# Altium integrated library AD Analog Comparator.IntLib: 78 symbols (part 1 of 2)
Pins are listed as number, name and electrical type; pins without a type are passive.

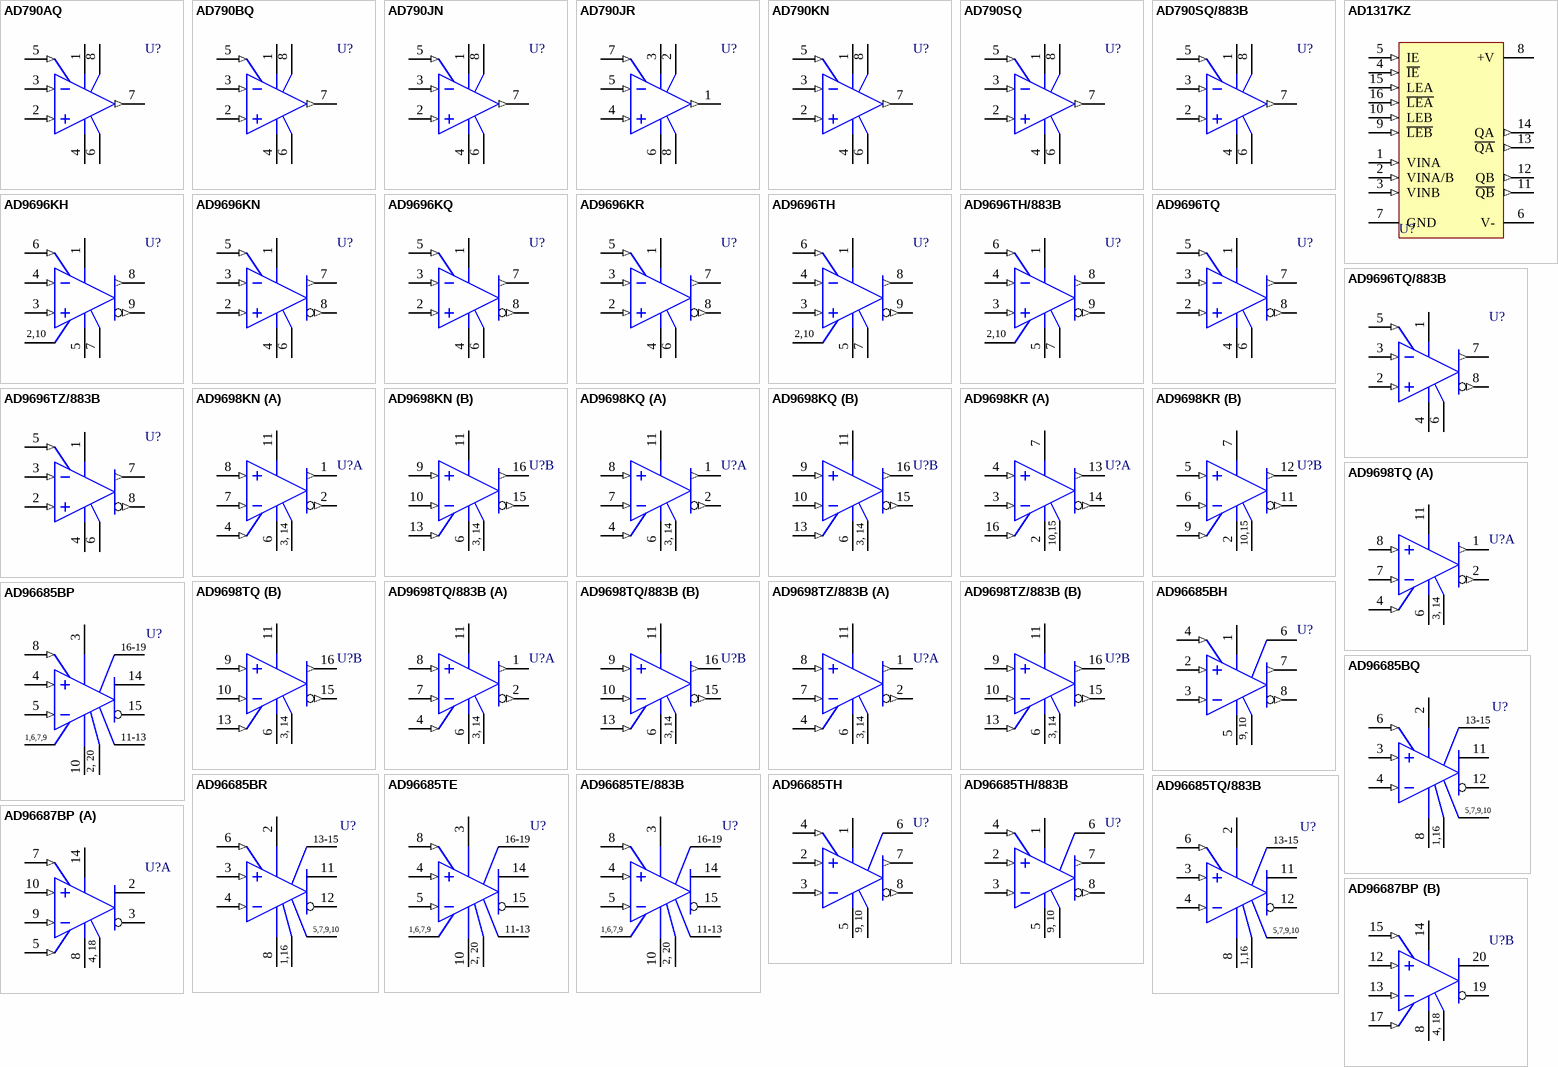
[diagram p0: symbols AD790AQ to AD96687BP]

## AD790AQ
designator U?
Fast Precision Comparator; Published: 8-Jun-2000; LatestRevisionDate: 04-Mar-2005; LatestRevisionNote: Stylized 3D Model Added.; DatasheetVersion: REV. B; PackageVersion: 1998; PackageReference: Q-8; Publisher: Altium Limited; PackageDescription: DIP; 8 Leads; Row Spacing 7.62 mm; Pitch 2.54 mm; ComponentLink1Description: Manufacturer Link; ComponentLink1URL: http://www.analog.com/
footprint Q-8 (DIP; 8 Leads; Row Spacing 7.62 mm; Pitch 2.54 mm)
3D model Q-8 (DIP; 8 Leads; Row Spacing 7.62 mm; Pitch 2.54 mm)
pins: 1 V+ (power), 2 IN+ (in), 3 IN- (in), 4 V- (power), 5 ~{LE} (in), 6 GND (power), 7 OUT (out), 8 VLOGIC (power)

## AD790BQ
designator U?
Fast Precision Comparator; Published: 8-Jun-2000; LatestRevisionDate: 04-Mar-2005; LatestRevisionNote: Stylized 3D Model Added.; DatasheetVersion: REV. B; PackageVersion: 1998; PackageReference: Q-8; Publisher: Altium Limited; PackageDescription: DIP; 8 Leads; Row Spacing 7.62 mm; Pitch 2.54 mm; ComponentLink1Description: Manufacturer Link; ComponentLink1URL: http://www.analog.com/
footprint Q-8 (DIP; 8 Leads; Row Spacing 7.62 mm; Pitch 2.54 mm)
3D model Q-8 (DIP; 8 Leads; Row Spacing 7.62 mm; Pitch 2.54 mm)
pins: 1 V+ (power), 2 IN+ (in), 3 IN- (in), 4 V- (power), 5 ~{LE} (in), 6 GND (power), 7 OUT (out), 8 VLOGIC (power)

## AD790JN
designator U?
Fast Precision Comparator; Published: 8-Jun-2000; LatestRevisionDate: 04-Mar-2005; LatestRevisionNote: Stylized 3D Model Added.; DatasheetVersion: REV. B; PackageVersion: revA; PackageReference: N-8; Publisher: Altium Limited; PackageDescription: DIP; 8 Leads; Row Spacing 7.62 mm; Pitch 2.54 mm; ComponentLink1Description: Manufacturer Link; ComponentLink1URL: http://www.analog.com/
footprint N-8 (DIP; 8 Leads; Row Spacing 7.62 mm; Pitch 2.54 mm)
3D model Q-8 (DIP; 8 Leads; Row Spacing 7.62 mm; Pitch 2.54 mm)
pins: 1 V+ (power), 2 IN+ (in), 3 IN- (in), 4 V- (power), 5 ~{LE} (in), 6 GND (power), 7 OUT (out), 8 VLOGIC (power)

## AD790JR
designator U?
Fast Precision Comparator; Published: 8-Jun-2000; LatestRevisionDate: 13-Apr-2006; LatestRevisionNote: IPC-7351 Footprint Added.; DatasheetVersion: REV. B; PackageVersion: revC; PackageReference: SO-8C; Publisher: Altium Limited; PackageDescription: 8-Pin Small Outline Integrated Circuit 1.27 mm Pitch; Code_IPC: SOIC127P600-8; ComponentLink1Description: Manufacturer Link; ComponentLink1URL: http://www.analog.com/
footprint SO-8C_N (SOIC, 8-Leads, Body 4.9x3.9mm, Pitch 1.27mm, IPC Medium Density)
footprint SO-8C_L (SOIC, 8-Leads, Body 4.9x3.9mm, Pitch 1.27mm, IPC High Density)
footprint SO-8C_M (SOIC, 8-Leads, Body 4.9x3.9mm, Pitch 1.27mm, IPC Low Density)
3D model SO-8C (8-Pin Small Outline Integrated Circuit 1.27 mm Pitch)
pins: 1 OUT (out), 2 VLOGIC (power), 3 V+ (power), 4 IN+ (in), 5 IN- (in), 6 V- (power), 7 ~{LE} (in), 8 GND (power)

## AD790KN
designator U?
Fast Precision Comparator; Published: 8-Jun-2000; LatestRevisionDate: 04-Mar-2005; LatestRevisionNote: Stylized 3D Model Added.; DatasheetVersion: REV. B; PackageVersion: 1992; PackageReference: N-8_B; Publisher: Altium Limited; PackageDescription: DIP; 8 Leads; Row Spacing 7.62 mm; Pitch 2.54 mm; ComponentLink1Description: Manufacturer Link; ComponentLink1URL: http://www.analog.com/
footprint N-8_B (DIP; 8 Leads; Row Spacing 7.62 mm; Pitch 2.54 mm)
3D model Q-8 (DIP; 8 Leads; Row Spacing 7.62 mm; Pitch 2.54 mm)
pins: 1 V+ (power), 2 IN+ (in), 3 IN- (in), 4 V- (power), 5 ~{LE} (in), 6 GND (power), 7 OUT (out), 8 VLOGIC (power)

## AD790SQ
designator U?
Fast Precision Comparator; Published: 8-Jun-2000; LatestRevisionDate: 04-Mar-2005; LatestRevisionNote: Stylized 3D Model Added.; DatasheetVersion: REV. B; PackageVersion: 1998; PackageReference: Q-8; Publisher: Altium Limited; PackageDescription: DIP; 8 Leads; Row Spacing 7.62 mm; Pitch 2.54 mm; ComponentLink1Description: Manufacturer Link; ComponentLink1URL: http://www.analog.com/
footprint Q-8 (DIP; 8 Leads; Row Spacing 7.62 mm; Pitch 2.54 mm)
3D model Q-8 (DIP; 8 Leads; Row Spacing 7.62 mm; Pitch 2.54 mm)
pins: 1 V+ (power), 2 IN+ (in), 3 IN- (in), 4 V- (power), 5 ~{LE} (in), 6 GND (power), 7 OUT (out), 8 VLOGIC (power)

## AD790SQ/883B
designator U?
Fast Precision Comparator; Published: 8-Jun-2000; LatestRevisionDate: 04-Mar-2005; LatestRevisionNote: Stylized 3D Model Added.; DatasheetVersion: REV. B; PackageVersion: 1998; PackageReference: Q-8; Publisher: Altium Limited; PackageDescription: DIP; 8 Leads; Row Spacing 7.62 mm; Pitch 2.54 mm; ComponentLink1Description: Manufacturer Link; ComponentLink1URL: http://www.analog.com/
footprint Q-8 (DIP; 8 Leads; Row Spacing 7.62 mm; Pitch 2.54 mm)
3D model Q-8 (DIP; 8 Leads; Row Spacing 7.62 mm; Pitch 2.54 mm)
pins: 1 V+ (power), 2 IN+ (in), 3 IN- (in), 4 V- (power), 5 ~{LE} (in), 6 GND (power), 7 OUT (out), 8 VLOGIC (power)

## AD1317KZ
designator U?
Ultra-high Speed Window Comparator with Latch; Published: 8-Jun-2000; LatestRevisionDate: 13-Apr-2006; LatestRevisionNote: IPC-7351 Footprint Added.; DatasheetVersion: REV. A 1997; PackageReference: Z-16A; Publisher: Altium Limited; PackageDescription: 16-Pin Ceramic Leaded Chip Carrier 1.27 mm Pitch; ComponentLink1Description: Manufacturer Link; ComponentLink1URL: http://www.analog.com/
footprint Z-16A_N (SOP, 16-Leads, Body 11.4x11.4mm, Pitch 1.27mm, IPC Medium Density)
footprint Z-16A_L (SOP, 16-Leads, Body 11.4x11.4mm, Pitch 1.27mm, IPC High Density)
footprint Z-16A_M (SOP, 16-Leads, Body 11.4x11.4mm, Pitch 1.27mm, IPC Low Density)
3D model Z-16A (16-Pin Ceramic Leaded Chip Carrier 1.27 mm Pitch)
pins: 1 VINA (in), 2 VINA/B (in), 3 VINB (in), 4 ~{IE} (in), 5 IE (in), 6 V- (power), 7 GND (power), 8 +V (power), 9 ~{LEB} (in), 10 LEB (in), 11 ~{QB} (out), 12 QB (out), 13 ~{QA} (out), 14 QA (out), 15 LEA (in), 16 ~{LEA} (in)

## AD9696KH
designator U?
Ultrafast TTL Comparator; Note: Pins 2 and 10 are not connected; Published: 8-Jun-2000; LatestRevisionDate: 17-Jul-2002; LatestRevisionNote: Re-released for DXP Platform.; DatasheetVersion: 1992; PackageReference: H-10A; Publisher: Altium Limited; PackageDescription: Can; 10 Leads; Pin Circle Dia. 5.84 mm; Lead Dia. 0.53 mm (max); Code_JEDEC: TO-100; ComponentLink1Description: Manufacturer Link; ComponentLink1URL: http://www.analog.com/
footprint H-10A (Can; 10 Leads; Pin Circle Dia. 5.84 mm; Lead Dia. 0.53 mm (max))
pins: 1 V+ (power), 2 NC, 3 IN+ (in), 4 IN- (in), 5 V- (power), 6 LE (in), 7 GND (power), 8 Q (out), 9 ~{Q} (out), 10 NC
text: 2,10

## AD9696KN
designator U?
Ultrafast TTL Comparator; Published: 8-Jun-2000; LatestRevisionDate: 04-Mar-2005; LatestRevisionNote: Stylized 3D Model Added.; DatasheetVersion: 1992; PackageReference: N-8_A; Publisher: Altium Limited; PackageDescription: DIP; 8 Leads; Row Spacing 7.62 mm; Pitch 2.54 mm; Code_JEDEC: MO-001-AN; ComponentLink1Description: Manufacturer Link; ComponentLink1URL: http://www.analog.com/
footprint N-8_A (DIP; 8 Leads; Row Spacing 7.62 mm; Pitch 2.54 mm)
3D model N-8A (DIP; 8 Leads; Row Spacing 7.62 mm; Pitch 2.54 mm)
pins: 1 V+ (power), 2 IN+ (in), 3 IN- (in), 4 V- (power), 5 LE (in), 6 GND (power), 7 Q (out), 8 ~{Q} (out)

## AD9696KQ
designator U?
Ultrafast TTL Comparator; Published: 8-Jun-2000; LatestRevisionDate: 04-Mar-2005; LatestRevisionNote: Stylized 3D Model Added.; DatasheetVersion: 1992; PackageVersion: 1998; PackageReference: Q-8; Publisher: Altium Limited; PackageDescription: DIP; 8 Leads; Row Spacing 7.62 mm; Pitch 2.54 mm; ComponentLink1Description: Manufacturer Link; ComponentLink1URL: http://www.analog.com/
footprint Q-8 (DIP; 8 Leads; Row Spacing 7.62 mm; Pitch 2.54 mm)
3D model Q-8 (DIP; 8 Leads; Row Spacing 7.62 mm; Pitch 2.54 mm)
pins: 1 V+ (power), 2 IN+ (in), 3 IN- (in), 4 V- (power), 5 LE (in), 6 GND (power), 7 Q (out), 8 ~{Q} (out)

## AD9696KR
designator U?
Ultrafast TTL Comparator; Published: 8-Jun-2000; LatestRevisionDate: 13-Apr-2006; LatestRevisionNote: IPC-7351 Footprint Added.; DatasheetVersion: 1992; PackageVersion: 2005; PackageReference: R-8; Publisher: Altium Limited; PackageDescription: 8-Pin Narrow Body Small Outline Integrated Circuit 1.27 mm Pitch; Code_JEDEC: MS-012-AA; Code_IPC: SOIC127P600-8; ComponentLink1Description: Manufacturer Link; ComponentLink1URL: http://www.analog.com/
footprint R-8_N (SOIC, 8-Leads, Body 4.9x3.9mm, Pitch 1.27mm, IPC Medium Density)
footprint R-8_L (SOIC, 8-Leads, Body 4.9x3.9mm, Pitch 1.27mm, IPC High Density)
footprint R-8_M (SOIC, 8-Leads, Body 4.9x3.9mm, Pitch 1.27mm, IPC Low Density)
3D model R-8 (8-Pin Narrow Body Small Outline Integrated Circuit 1.27 mm Pitch)
pins: 1 V+ (power), 2 IN+ (in), 3 IN- (in), 4 V- (power), 5 LE (in), 6 GND (power), 7 Q (out), 8 ~{Q} (out)

## AD9696TH
designator U?
Ultrafast TTL Comparator; Note: Pins 2 and 10 are not connected; Published: 8-Jun-2000; LatestRevisionDate: 17-Jul-2002; LatestRevisionNote: Re-released for DXP Platform.; DatasheetVersion: 1992; PackageReference: H-10A; Publisher: Altium Limited; PackageDescription: Can; 10 Leads; Pin Circle Dia. 5.84 mm; Lead Dia. 0.53 mm (max); Code_JEDEC: TO-100; ComponentLink1Description: Manufacturer Link; ComponentLink1URL: http://www.analog.com/
footprint H-10A (Can; 10 Leads; Pin Circle Dia. 5.84 mm; Lead Dia. 0.53 mm (max))
pins: 1 V+ (power), 2 NC, 3 IN+ (in), 4 IN- (in), 5 V- (power), 6 LE (in), 7 GND (power), 8 Q (out), 9 ~{Q} (out), 10 NC
text: 2,10

## AD9696TH/883B
designator U?
Ultrafast TTL Comparator; Note: Pins 2 and 10 are not connected; Published: 8-Jun-2000; LatestRevisionDate: 17-Jul-2002; LatestRevisionNote: Re-released for DXP Platform.; DatasheetVersion: 1992; PackageReference: H-10A; Publisher: Altium Limited; PackageDescription: Can; 10 Leads; Pin Circle Dia. 5.84 mm; Lead Dia. 0.53 mm (max); Code_JEDEC: TO-100; ComponentLink1Description: Manufacturer Link; ComponentLink1URL: http://www.analog.com/
footprint H-10A (Can; 10 Leads; Pin Circle Dia. 5.84 mm; Lead Dia. 0.53 mm (max))
pins: 1 V+ (power), 2 NC, 3 IN+ (in), 4 IN- (in), 5 V- (power), 6 LE (in), 7 GND (power), 8 Q (out), 9 ~{Q} (out), 10 NC
text: 2,10

## AD9696TQ
designator U?
Ultrafast TTL Comparator; Published: 8-Jun-2000; LatestRevisionDate: 04-Mar-2005; LatestRevisionNote: Stylized 3D Model Added.; DatasheetVersion: 1992; PackageVersion: 1998; PackageReference: Q-8; Publisher: Altium Limited; PackageDescription: DIP; 8 Leads; Row Spacing 7.62 mm; Pitch 2.54 mm; ComponentLink1Description: Manufacturer Link; ComponentLink1URL: http://www.analog.com/
footprint Q-8 (DIP; 8 Leads; Row Spacing 7.62 mm; Pitch 2.54 mm)
3D model Q-8 (DIP; 8 Leads; Row Spacing 7.62 mm; Pitch 2.54 mm)
pins: 1 V+ (power), 2 IN+ (in), 3 IN- (in), 4 V- (power), 5 LE (in), 6 GND (power), 7 Q (out), 8 ~{Q} (out)

## AD9696TQ/883B
designator U?
Ultrafast TTL Comparator; Published: 8-Jun-2000; LatestRevisionDate: 04-Mar-2005; LatestRevisionNote: Stylized 3D Model Added.; DatasheetVersion: 1992; PackageVersion: 1998; PackageReference: Q-8; Publisher: Altium Limited; PackageDescription: DIP; 8 Leads; Row Spacing 7.62 mm; Pitch 2.54 mm; ComponentLink1Description: Manufacturer Link; ComponentLink1URL: http://www.analog.com/
footprint Q-8 (DIP; 8 Leads; Row Spacing 7.62 mm; Pitch 2.54 mm)
3D model Q-8 (DIP; 8 Leads; Row Spacing 7.62 mm; Pitch 2.54 mm)
pins: 1 V+ (power), 2 IN+ (in), 3 IN- (in), 4 V- (power), 5 LE (in), 6 GND (power), 7 Q (out), 8 ~{Q} (out)

## AD9696TZ/883B
designator U?
Ultrafast TTL Comparator; Published: 8-Jun-2000; LatestRevisionDate: 13-Apr-2006; LatestRevisionNote: IPC-7351 Footprint Added.; DatasheetVersion: 1992; PackageReference: Z-8; Publisher: Altium Limited; PackageDescription: 8-Pin Small Outline Package 1.27 mm Pitch; ComponentLink1Description: Manufacturer Link; ComponentLink1URL: http://www.analog.com/
footprint Z-8_N (SOP, 8-Leads, Body 6.5x6.5mm, Pitch 1.27mm, IPC Medium Density)
footprint Z-8_L (SOP, 8-Leads, Body 6.5x6.5mm, Pitch 1.27mm, IPC High Density)
footprint Z-8_M (SOP, 8-Leads, Body 6.5x6.5mm, Pitch 1.27mm, IPC Low Density)
3D model Z-8 (8-Pin Small Outline Package 1.27 mm Pitch)
pins: 1 V+ (power), 2 IN+ (in), 3 IN- (in), 4 V- (power), 5 LE (in), 6 GND (power), 7 Q (out), 8 ~{Q} (out)

## AD9698KN
designator U?
Ultrafast TTL Comparator; Note: Pins 5 and 12 are not connected and not drawn; Published: 8-Jun-2000; LatestRevisionDate: 04-Mar-2005; LatestRevisionNote: Stylized 3D Model Added.; DatasheetVersion: 1992; PackageReference: N-16_A; Publisher: Altium Limited; PackageDescription: DIP; 16 Leads; Row Spacing 7.62 mm; Pitch 2.54 mm; ComponentLink1Description: Manufacturer Link; ComponentLink1URL: http://www.analog.com/
footprint N-16_A (DIP; 16 Leads; Row Spacing 7.62 mm; Pitch 2.54 mm)
3D model Q-16 (DIP; 16 Leads; Row Spacing 7.62 mm; Pitch 2.54 mm)
pins on every part: 3 GND (power), 6 V- (power), 11 V+ (power), 14 GND (power)
part A pins: 1 Q (out), 2 ~{Q} (out), 4 LE (in), 7 IN- (in), 8 IN+ (in)
part B pins: 9 IN+ (in), 10 IN- (in), 13 LE (in), 15 ~{Q} (out), 16 Q (out)
part A text: 3, 14
part B text: 3, 14

## AD9698KQ
designator U?
Ultrafast TTL Comparator; Note: Pins 5 and 12 are not connected and not drawn; Published: 8-Jun-2000; LatestRevisionDate: 04-Mar-2005; LatestRevisionNote: Stylized 3D Model Added.; DatasheetVersion: 1992; PackageVersion: 1996; PackageReference: Q-16; Publisher: Altium Limited; PackageDescription: DIP; 16 Leads; Row Spacing 7.62 mm; Pitch 2.54 mm; ComponentLink1Description: Manufacturer Link; ComponentLink1URL: http://www.analog.com/
footprint Q-16 (DIP; 16 Leads; Row Spacing 7.62 mm; Pitch 2.54 mm)
3D model Q-16 (DIP; 16 Leads; Row Spacing 7.62 mm; Pitch 2.54 mm)
pins on every part: 3 GND (power), 6 V- (power), 11 V+ (power), 14 GND (power)
part A pins: 1 Q (out), 2 ~{Q} (out), 4 LE (in), 7 IN- (in), 8 IN+ (in)
part B pins: 9 IN+ (in), 10 IN- (in), 13 LE (in), 15 ~{Q} (out), 16 Q (out)
part A text: 3, 14
part B text: 3, 14

## AD9698KR
designator U?
Ultrafast TTL Comparator; Note: Pins 1 and 8 are not connected and not drawn; Published: 8-Jun-2000; LatestRevisionDate: 13-Apr-2006; LatestRevisionNote: IPC-7351 Footprint Added.; DatasheetVersion: 1992; PackageReference: R-16A; Publisher: Altium Limited; PackageDescription: 16-Pin Small Outline Integrated Circuit 1.27 mm Pitch; Code_JEDEC: MS-012-AC; Code_IPC: SOIC127P600-16; ComponentLink1Description: Manufacturer Link; ComponentLink1URL: http://www.analog.com/
footprint R-16A_N (SOIC, 16-Leads, Body 9.9x3.9mm, Pitch 1.27mm, IPC Medium Density)
footprint R-16A_L (SOIC, 16-Leads, Body 9.9x3.9mm, Pitch 1.27mm, IPC High Density)
footprint R-16A_M (SOIC, 16-Leads, Body 9.9x3.9mm, Pitch 1.27mm, IPC Low Density)
3D model R-16A (16-Pin Small Outline Integrated Circuit 1.27 mm Pitch)
pins on every part: 2 V- (power), 7 V+ (power), 10 GND (power), 15 GND (power)
part A pins: 3 IN- (in), 4 IN+ (in), 13 Q (out), 14 ~{Q} (out), 16 LE (in)
part B pins: 5 IN+ (in), 6 IN- (in), 9 LE (in), 11 ~{Q} (out), 12 Q (out)
part A text: 10,15
part B text: 10,15

## AD9698TQ
designator U?
Ultrafast TTL Comparator; Note: Pins 5 and 12 are not connected and not drawn; Published: 8-Jun-2000; LatestRevisionDate: 04-Mar-2005; LatestRevisionNote: Stylized 3D Model Added.; DatasheetVersion: 1992; PackageVersion: 1996; PackageReference: Q-16; Publisher: Altium Limited; PackageDescription: DIP; 16 Leads; Row Spacing 7.62 mm; Pitch 2.54 mm; ComponentLink1Description: Manufacturer Link; ComponentLink1URL: http://www.analog.com/
footprint Q-16 (DIP; 16 Leads; Row Spacing 7.62 mm; Pitch 2.54 mm)
3D model Q-16 (DIP; 16 Leads; Row Spacing 7.62 mm; Pitch 2.54 mm)
pins on every part: 3 GND (power), 6 V- (power), 11 V+ (power), 14 GND (power)
part A pins: 1 Q (out), 2 ~{Q} (out), 4 LE (in), 7 IN- (in), 8 IN+ (in)
part B pins: 9 IN+ (in), 10 IN- (in), 13 LE (in), 15 ~{Q} (out), 16 Q (out)
part A text: 3, 14
part B text: 3, 14

## AD9698TQ/883B
designator U?
Ultrafast TTL Comparator; Note: Pins 5 and 12 are not connected and not drawn; Published: 8-Jun-2000; LatestRevisionDate: 04-Mar-2005; LatestRevisionNote: Stylized 3D Model Added.; DatasheetVersion: 1992; PackageVersion: 1996; PackageReference: Q-16; Publisher: Altium Limited; PackageDescription: DIP; 16 Leads; Row Spacing 7.62 mm; Pitch 2.54 mm; ComponentLink1Description: Manufacturer Link; ComponentLink1URL: http://www.analog.com/
footprint Q-16 (DIP; 16 Leads; Row Spacing 7.62 mm; Pitch 2.54 mm)
3D model Q-16 (DIP; 16 Leads; Row Spacing 7.62 mm; Pitch 2.54 mm)
pins on every part: 3 GND (power), 6 V- (power), 11 V+ (power), 14 GND (power)
part A pins: 1 Q (out), 2 ~{Q} (out), 4 LE (in), 7 IN- (in), 8 IN+ (in)
part B pins: 9 IN+ (in), 10 IN- (in), 13 LE (in), 15 ~{Q} (out), 16 Q (out)
part A text: 3, 14
part B text: 3, 14

## AD9698TZ/883B
designator U?
Ultrafast TTL Comparator; Note: Pins 5 and 12 are not connected and not drawn; Published: 8-Jun-2000; LatestRevisionDate: 13-Apr-2006; LatestRevisionNote: IPC-7351 Footprint Added.; DatasheetVersion: 1992; PackageReference: Z-16; Publisher: Altium Limited; PackageDescription: 16-Pin Ceramic Leaded Chip Carrier 1.27 mm Pitch; ComponentLink1Description: Manufacturer Link; ComponentLink1URL: http://www.analog.com/
footprint Z-16_N (SOP, 16-Leads, Body 10.1x6.5mm, Pitch 1.27mm, IPC Medium Density)
footprint Z-16_L (SOP, 16-Leads, Body 10.1x6.5mm, Pitch 1.27mm, IPC High Density)
footprint Z-16_M (SOP, 16-Leads, Body 10.1x6.5mm, Pitch 1.27mm, IPC Low Density)
3D model Z-16 (16-Pin Ceramic Leaded Chip Carrier 1.27 mm Pitch)
pins on every part: 3 GND (power), 6 V- (power), 11 V+ (power), 14 GND (power)
part A pins: 1 Q (out), 2 ~{Q} (out), 4 LE (in), 7 IN- (in), 8 IN+ (in)
part B pins: 9 IN+ (in), 10 IN- (in), 13 LE (in), 15 ~{Q} (out), 16 Q (out)
part A text: 3, 14
part B text: 3, 14

## AD96685BH
designator U?
Ultrafast Comparator; Note: Pin 6 is not connected; Published: 8-Jun-2000; LatestRevisionDate: 17-Jul-2002; LatestRevisionNote: Re-released for DXP Platform.; DatasheetVersion: REV. C; PackageReference: H-10A; Publisher: Altium Limited; PackageDescription: Can; 10 Leads; Pin Circle Dia. 5.84 mm; Lead Dia. 0.53 mm (max); Code_JEDEC: TO-100; ComponentLink1Description: Manufacturer Link; ComponentLink1URL: http://www.analog.com/en/prod/0%2C2877%2CAD96685%2C00.html; ComponentLink2Description: Datasheet; ComponentLink2URL: http://www.analog.com/UploadedFiles/Data_Sheets/528053103AD96685_7_d.pdf
footprint H-10A (Can; 10 Leads; Pin Circle Dia. 5.84 mm; Lead Dia. 0.53 mm (max))
pins: 1 V+ (power), 2 IN+ (in), 3 IN- (in), 4 LE (in), 5 V- (power), 6 NC, 7 Q (out), 8 ~{Q} (out), 9 GND (power), 10 GND (power)
text: 9, 10

## AD96685BP
designator U?
Ultrafast Comparator; Note: Pins 1, 6, 7, 9, 11, 12, 13, 16, 17, 18 and 19 are not connected; Published: 8-Jun-2000; LatestRevisionDate: 13-Apr-2006; LatestRevisionNote: IPC-7351 Footprint Added.; DatasheetVersion: REV. C; PackageVersion: revA; PackageReference: P-20A_A; Publisher: Altium Limited; PackageDescription: 20-Pin Leaded Chip Carrier 1.27 mm Pitch; Code_IPC: PLCC-20; ComponentLink1Description: Manufacturer Link; ComponentLink1URL: http://www.analog.com/en/prod/0%2C2877%2CAD96685%2C00.html; ComponentLink2Description: Datasheet; ComponentLink2URL: http://www.analog.com/UploadedFiles/Data_Sheets/528053103AD96685_7_d.pdf
footprint P-20A_A_N (Leaded Chip Carrier, 20-Leads, Body 9x9mm, Pitch 1.27mm, IPC Medium Density)
footprint P-20A_A_L (Leaded Chip Carrier, 20-Leads, Body 9x9mm, Pitch 1.27mm, IPC High Density)
footprint P-20A_A_M (Leaded Chip Carrier, 20-Leads, Body 9x9mm, Pitch 1.27mm, IPC Low Density)
3D model AD96685-P20AA (20-Pin Leaded Chip Carrier 1.27 mm Pitch)
pins: 1 NC, 2 GND (power), 3 V+ (power), 4 IN+ (in), 5 IN- (in), 6 NC, 7 NC, 8 LE (in), 9 NC, 10 V- (power), 11 NC, 12 NC, 13 NC, 14 Q (oe), 15 ~{Q} (oe), 16 NC, 17 NC, 18 NC, 19 NC, 20 GND (power)
text: 16-19; 1,6,7,9; 11-13; 2, 20

## AD96685BQ
designator U?
Ultrafast Comparator; Note: Pins 5, 7, 9, 10, 13, 14 and 15 are not connected; Published: 8-Jun-2000; LatestRevisionDate: 04-Mar-2005; LatestRevisionNote: Stylized 3D Model Added.; DatasheetVersion: REV. C; PackageVersion: 1996; PackageReference: Q-16; Publisher: Altium Limited; PackageDescription: DIP; 16 Leads; Row Spacing 7.62 mm; Pitch 2.54 mm; ComponentLink1Description: Manufacturer Link; ComponentLink1URL: http://www.analog.com/en/prod/0%2C2877%2CAD96685%2C00.html; ComponentLink2Description: Datasheet; ComponentLink2URL: http://www.analog.com/UploadedFiles/Data_Sheets/528053103AD96685_7_d.pdf
footprint Q-16 (DIP; 16 Leads; Row Spacing 7.62 mm; Pitch 2.54 mm)
3D model Q-16 (DIP; 16 Leads; Row Spacing 7.62 mm; Pitch 2.54 mm)
pins: 1 GND (power), 2 V+ (power), 3 IN+ (in), 4 IN- (in), 5 NC, 6 LE (in), 7 NC, 8 V- (power), 9 NC, 10 NC, 11 Q (oe), 12 ~{Q} (oe), 13 NC, 14 NC, 15 NC, 16 GND (power)
text: 13-15; 5,7,9,10; 1,16

## AD96685BR
designator U?
Ultrafast Comparator; Note: Pins 5, 7, 9, 10, 13, 14 and 15 are not connected; Published: 8-Jun-2000; LatestRevisionDate: 13-Apr-2006; LatestRevisionNote: IPC-7351 Footprint Added.; DatasheetVersion: REV. C; PackageReference: R-16A; Publisher: Altium Limited; PackageDescription: 16-Pin Small Outline Integrated Circuit 1.27 mm Pitch; Code_JEDEC: MS-012-AC; Code_IPC: SOIC127P600-16; ComponentLink1Description: Manufacturer Link; ComponentLink1URL: http://www.analog.com/en/prod/0%2C2877%2CAD96685%2C00.html; ComponentLink2Description: Datasheet; ComponentLink2URL: http://www.analog.com/UploadedFiles/Data_Sheets/528053103AD96685_7_d.pdf
footprint R-16A_N (SOIC, 16-Leads, Body 9.9x3.9mm, Pitch 1.27mm, IPC Medium Density)
footprint R-16A_L (SOIC, 16-Leads, Body 9.9x3.9mm, Pitch 1.27mm, IPC High Density)
footprint R-16A_M (SOIC, 16-Leads, Body 9.9x3.9mm, Pitch 1.27mm, IPC Low Density)
3D model R-16A (16-Pin Small Outline Integrated Circuit 1.27 mm Pitch)
pins: 1 GND (power), 2 V+ (power), 3 IN+ (in), 4 IN- (in), 5 NC, 6 LE (in), 7 NC, 8 V- (power), 9 NC, 10 NC, 11 Q (oe), 12 ~{Q} (oe), 13 NC, 14 NC, 15 NC, 16 GND (power)
text: 13-15; 5,7,9,10; 1,16

## AD96685TE
designator U?
Ultrafast Comparator; Note: Pins 1, 6, 7, 9, 11, 12, 13, 16, 17, 18 and 19 are not connected; Published: 8-Jun-2000; LatestRevisionDate: 17-Jul-2002; LatestRevisionNote: Re-released for DXP Platform.; DatasheetVersion: REV. A; PackageReference: E-20A; Publisher: Altium Limited; PackageDescription: Leadless Chip Carrier; 20 Terminals; Body 8.9 x 8.9 mm; ComponentLink1Description: Manufacturer Link; ComponentLink1URL: http://www.analog.com/
footprint E-20A (Leadless Chip Carrier; 20 Terminals; Body 8.9 x 8.9 mm)
pins: 1 NC, 2 GND (power), 3 V+ (power), 4 IN+ (in), 5 IN- (in), 6 NC, 7 NC, 8 LE (in), 9 NC, 10 V- (power), 11 NC, 12 NC, 13 NC, 14 Q (oe), 15 ~{Q} (oe), 16 NC, 17 NC, 18 NC, 19 NC, 20 GND (power)
text: 16-19; 1,6,7,9; 11-13; 2, 20

## AD96685TE/883B
designator U?
Ultrafast Comparator; Note: Pins 1, 6, 7, 9, 11, 12, 13, 16, 17, 18 and 19 are not connected; Published: 8-Jun-2000; LatestRevisionDate: 17-Jul-2002; LatestRevisionNote: Re-released for DXP Platform.; DatasheetVersion: REV. A; PackageReference: E-20A; Publisher: Altium Limited; PackageDescription: Leadless Chip Carrier; 20 Terminals; Body 8.9 x 8.9 mm; ComponentLink1Description: Manufacturer Link; ComponentLink1URL: http://www.analog.com/
footprint E-20A (Leadless Chip Carrier; 20 Terminals; Body 8.9 x 8.9 mm)
pins: 1 NC, 2 GND (power), 3 V+ (power), 4 IN+ (in), 5 IN- (in), 6 NC, 7 NC, 8 LE (in), 9 NC, 10 V- (power), 11 NC, 12 NC, 13 NC, 14 Q (oe), 15 ~{Q} (oe), 16 NC, 17 NC, 18 NC, 19 NC, 20 GND (power)
text: 16-19; 1,6,7,9; 11-13; 2, 20

## AD96685TH
designator U?
Ultrafast Comparator; Note: Pin 6 is not connected; Published: 8-Jun-2000; LatestRevisionDate: 17-Jul-2002; LatestRevisionNote: Re-released for DXP Platform.; DatasheetVersion: REV. A; PackageReference: H-10A; Publisher: Altium Limited; PackageDescription: Can; 10 Leads; Pin Circle Dia. 5.84 mm; Lead Dia. 0.53 mm (max); Code_JEDEC: TO-100; ComponentLink1Description: Manufacturer Link; ComponentLink1URL: http://www.analog.com/
footprint H-10A (Can; 10 Leads; Pin Circle Dia. 5.84 mm; Lead Dia. 0.53 mm (max))
pins: 1 V+ (power), 2 IN+ (in), 3 IN- (in), 4 LE (in), 5 V- (power), 6 NC, 7 Q (out), 8 ~{Q} (out), 9 GND (power), 10 GND (power)
text: 9, 10

## AD96685TH/883B
designator U?
Ultrafast Comparator; Note: Pin 6 is not connected; Published: 8-Jun-2000; LatestRevisionDate: 17-Jul-2002; LatestRevisionNote: Re-released for DXP Platform.; DatasheetVersion: REV. A; PackageReference: H-10A; Publisher: Altium Limited; PackageDescription: Can; 10 Leads; Pin Circle Dia. 5.84 mm; Lead Dia. 0.53 mm (max); Code_JEDEC: TO-100; ComponentLink1Description: Manufacturer Link; ComponentLink1URL: http://www.analog.com/
footprint H-10A (Can; 10 Leads; Pin Circle Dia. 5.84 mm; Lead Dia. 0.53 mm (max))
pins: 1 V+ (power), 2 IN+ (in), 3 IN- (in), 4 LE (in), 5 V- (power), 6 NC, 7 Q (out), 8 ~{Q} (out), 9 GND (power), 10 GND (power)
text: 9, 10

## AD96685TQ/883B
designator U?
Ultrafast Comparator; Note: Pins 5, 7, 9, 10, 13, 14 and 15 are not connected; Published: 8-Jun-2000; LatestRevisionDate: 04-Mar-2005; LatestRevisionNote: Stylized 3D Model Added.; DatasheetVersion: REV. C; PackageVersion: 1996; PackageReference: Q-16; Publisher: Altium Limited; PackageDescription: DIP; 16 Leads; Row Spacing 7.62 mm; Pitch 2.54 mm; ComponentLink1Description: Manufacturer Link; ComponentLink1URL: http://www.analog.com/en/prod/0%2C2877%2CAD96685%2C00.html; ComponentLink2Description: Datasheet; ComponentLink2URL: http://www.analog.com/UploadedFiles/Data_Sheets/528053103AD96685_7_d.pdf
footprint Q-16 (DIP; 16 Leads; Row Spacing 7.62 mm; Pitch 2.54 mm)
3D model Q-16 (DIP; 16 Leads; Row Spacing 7.62 mm; Pitch 2.54 mm)
pins: 1 GND (power), 2 V+ (power), 3 IN+ (in), 4 IN- (in), 5 NC, 6 LE (in), 7 NC, 8 V- (power), 9 NC, 10 NC, 11 Q (oe), 12 ~{Q} (oe), 13 NC, 14 NC, 15 NC, 16 GND (power)
text: 13-15; 5,7,9,10; 1,16

## AD96687BP
designator U?
Ultrafast Comparator; Note: Pins 1, 6, 11 and 16 are not connected and not drawn; Published: 8-Jun-2000; LatestRevisionDate: 13-Apr-2006; LatestRevisionNote: IPC-7351 Footprint Added.; DatasheetVersion: REV. C; PackageVersion: revA; PackageReference: P-20A_A; Publisher: Altium Limited; PackageDescription: 20-Pin Leaded Chip Carrier 1.27 mm Pitch; Code_IPC: PLCC-20; ComponentLink1Description: Manufacturer Link; ComponentLink1URL: http://www.analog.com/en/prod/0%2C2877%2CAD96685%2C00.html; ComponentLink2Description: Datasheet; ComponentLink2URL: http://www.analog.com/UploadedFiles/Data_Sheets/528053103AD96685_7_d.pdf
footprint P-20A_A_N (Leaded Chip Carrier, 20-Leads, Body 9x9mm, Pitch 1.27mm, IPC Medium Density)
footprint P-20A_A_L (Leaded Chip Carrier, 20-Leads, Body 9x9mm, Pitch 1.27mm, IPC High Density)
footprint P-20A_A_M (Leaded Chip Carrier, 20-Leads, Body 9x9mm, Pitch 1.27mm, IPC Low Density)
3D model AD96687-P20AA (20-Pin Leaded Chip Carrier 1.27 mm Pitch)
pins on every part: 4 GND (power), 8 V- (power), 14 V+ (power), 18 GND (power)
part A pins: 2 Q (oe), 3 ~{Q} (oe), 5 LE (in), 7 ~{LE} (in), 9 IN- (in), 10 IN+ (in)
part B pins: 12 IN+ (in), 13 IN- (in), 15 ~{LE} (in), 17 LE (in), 19 ~{Q} (oe), 20 Q (oe)
part A text: 4, 18
part B text: 4, 18

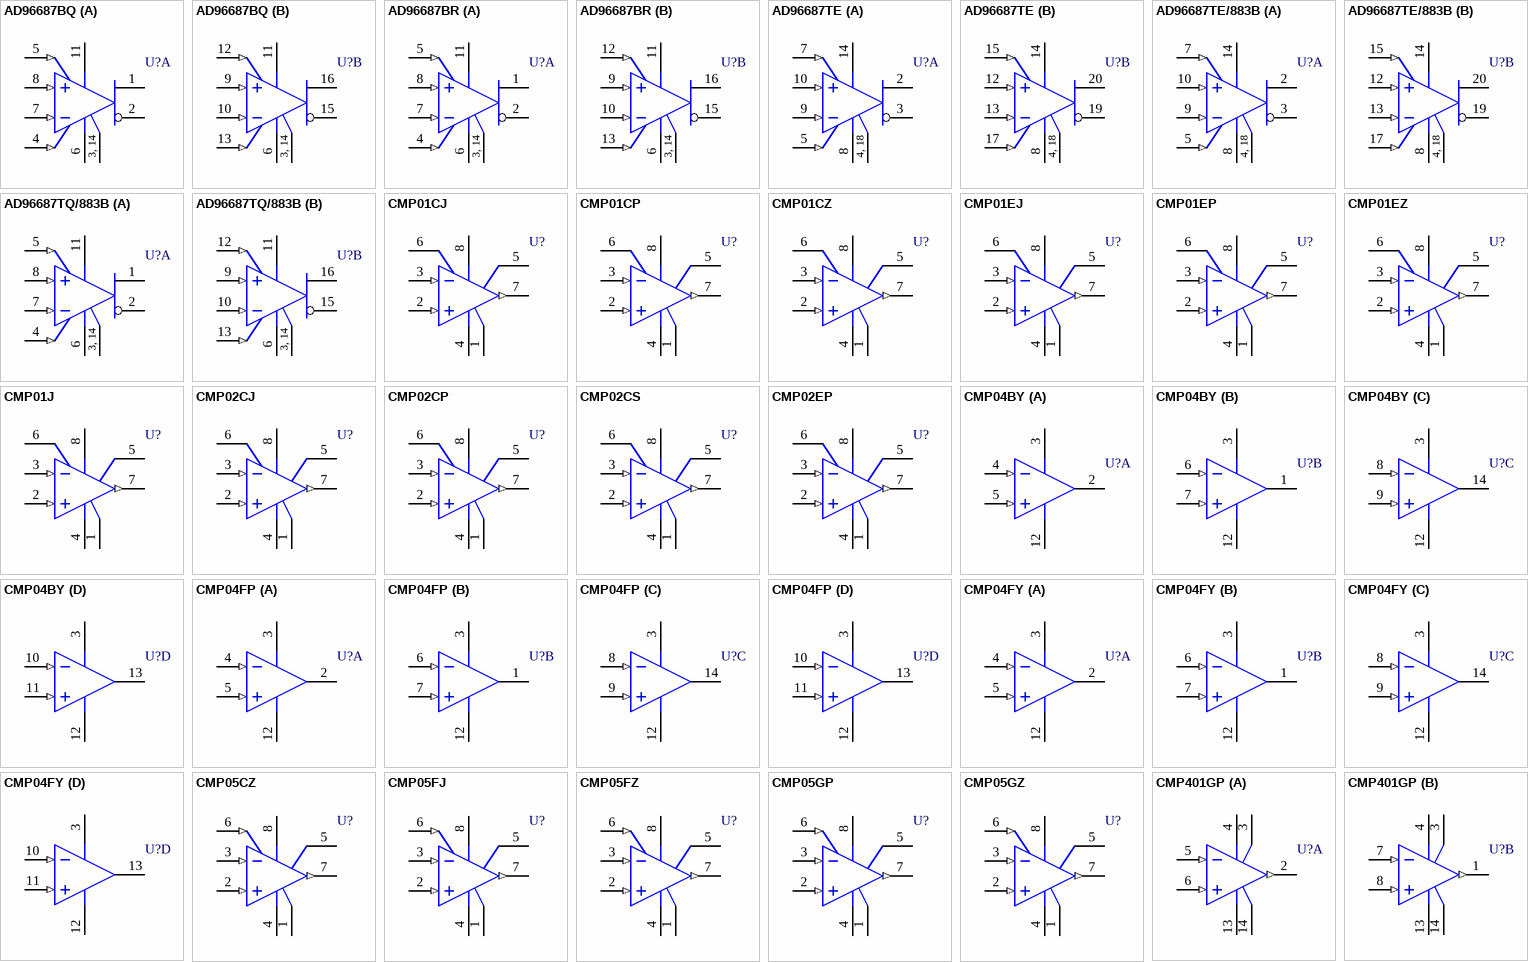
[diagram p1: symbols AD96687BQ to CMP401GP]

## AD96687BQ
designator U?
Ultrafast Comparator; Published: 8-Jun-2000; LatestRevisionDate: 04-Mar-2005; LatestRevisionNote: Stylized 3D Model Added.; DatasheetVersion: REV. C; PackageVersion: 1996; PackageReference: Q-16; Publisher: Altium Limited; PackageDescription: DIP; 16 Leads; Row Spacing 7.62 mm; Pitch 2.54 mm; ComponentLink1Description: Manufacturer Link; ComponentLink1URL: http://www.analog.com/en/prod/0%2C2877%2CAD96685%2C00.html; ComponentLink2Description: Datasheet; ComponentLink2URL: http://www.analog.com/UploadedFiles/Data_Sheets/528053103AD96685_7_d.pdf
footprint Q-16 (DIP; 16 Leads; Row Spacing 7.62 mm; Pitch 2.54 mm)
3D model Q-16 (DIP; 16 Leads; Row Spacing 7.62 mm; Pitch 2.54 mm)
pins on every part: 3 GND (power), 6 V- (power), 11 V+ (power), 14 GND (power)
part A pins: 1 Q (oe), 2 ~{Q} (oe), 4 LE (in), 5 ~{LE} (in), 7 IN- (in), 8 IN+ (in)
part B pins: 9 IN+ (in), 10 IN- (in), 12 ~{LE} (in), 13 LE (in), 15 ~{Q} (oe), 16 Q (oe)
part A text: 3, 14
part B text: 3, 14

## AD96687BR
designator U?
Ultrafast Comparator; Published: 8-Jun-2000; LatestRevisionDate: 13-Apr-2006; LatestRevisionNote: IPC-7351 Footprint Added.; DatasheetVersion: REV. C; PackageReference: R-16A; Publisher: Altium Limited; PackageDescription: 16-Pin Small Outline Integrated Circuit 1.27 mm Pitch; Code_JEDEC: MS-012-AC; Code_IPC: SOIC127P600-16; ComponentLink1Description: Manufacturer Link; ComponentLink1URL: http://www.analog.com/en/prod/0%2C2877%2CAD96685%2C00.html; ComponentLink2Description: Datasheet; ComponentLink2URL: http://www.analog.com/UploadedFiles/Data_Sheets/528053103AD96685_7_d.pdf
footprint R-16A_N (SOIC, 16-Leads, Body 9.9x3.9mm, Pitch 1.27mm, IPC Medium Density)
footprint R-16A_L (SOIC, 16-Leads, Body 9.9x3.9mm, Pitch 1.27mm, IPC High Density)
footprint R-16A_M (SOIC, 16-Leads, Body 9.9x3.9mm, Pitch 1.27mm, IPC Low Density)
3D model R-16A (16-Pin Small Outline Integrated Circuit 1.27 mm Pitch)
pins on every part: 3 GND (power), 6 V- (power), 11 V+ (power), 14 GND (power)
part A pins: 1 Q (oe), 2 ~{Q} (oe), 4 LE (in), 5 ~{LE} (in), 7 IN- (in), 8 IN+ (in)
part B pins: 9 IN+ (in), 10 IN- (in), 12 ~{LE} (in), 13 LE (in), 15 ~{Q} (oe), 16 Q (oe)
part A text: 3, 14
part B text: 3, 14

## AD96687TE
designator U?
Ultrafast Comparator; Note: Pins 1, 6, 11 and 16 are not connected and not drawn; Published: 8-Jun-2000; LatestRevisionDate: 17-Jul-2002; LatestRevisionNote: Re-released for DXP Platform.; DatasheetVersion: REV. A; PackageReference: E-20A; Publisher: Altium Limited; PackageDescription: Leadless Chip Carrier; 20 Terminals; Body 8.9 x 8.9 mm; ComponentLink1Description: Manufacturer Link; ComponentLink1URL: http://www.analog.com/
footprint E-20A (Leadless Chip Carrier; 20 Terminals; Body 8.9 x 8.9 mm)
pins on every part: 4 GND (power), 8 V- (power), 14 V+ (power), 18 GND (power)
part A pins: 2 Q (oe), 3 ~{Q} (oe), 5 LE (in), 7 ~{LE} (in), 9 IN- (in), 10 IN+ (in)
part B pins: 12 IN+ (in), 13 IN- (in), 15 ~{LE} (in), 17 LE (in), 19 ~{Q} (oe), 20 Q (oe)
part A text: 4, 18
part B text: 4, 18

## AD96687TE/883B
designator U?
Ultrafast Comparator; Note: Pins 1, 6, 11 and 16 are not connected and not drawn; Published: 8-Jun-2000; LatestRevisionDate: 17-Jul-2002; LatestRevisionNote: Re-released for DXP Platform.; DatasheetVersion: REV. A; PackageReference: E-20A; Publisher: Altium Limited; PackageDescription: Leadless Chip Carrier; 20 Terminals; Body 8.9 x 8.9 mm; ComponentLink1Description: Manufacturer Link; ComponentLink1URL: http://www.analog.com/
footprint E-20A (Leadless Chip Carrier; 20 Terminals; Body 8.9 x 8.9 mm)
pins on every part: 4 GND (power), 8 V- (power), 14 V+ (power), 18 GND (power)
part A pins: 2 Q (oe), 3 ~{Q} (oe), 5 LE (in), 7 ~{LE} (in), 9 IN- (in), 10 IN+ (in)
part B pins: 12 IN+ (in), 13 IN- (in), 15 ~{LE} (in), 17 LE (in), 19 ~{Q} (oe), 20 Q (oe)
part A text: 4, 18
part B text: 4, 18

## AD96687TQ/883B
designator U?
Ultrafast Comparator; Published: 8-Jun-2000; LatestRevisionDate: 04-Mar-2005; LatestRevisionNote: Stylized 3D Model Added.; DatasheetVersion: REV. C; PackageVersion: 1996; PackageReference: Q-16; Publisher: Altium Limited; PackageDescription: DIP; 16 Leads; Row Spacing 7.62 mm; Pitch 2.54 mm; ComponentLink1Description: Manufacturer Link; ComponentLink1URL: http://www.analog.com/en/prod/0%2C2877%2CAD96685%2C00.html; ComponentLink2Description: Datasheet; ComponentLink2URL: http://www.analog.com/UploadedFiles/Data_Sheets/528053103AD96685_7_d.pdf
footprint Q-16 (DIP; 16 Leads; Row Spacing 7.62 mm; Pitch 2.54 mm)
3D model Q-16 (DIP; 16 Leads; Row Spacing 7.62 mm; Pitch 2.54 mm)
pins on every part: 3 GND (power), 6 V- (power), 11 V+ (power), 14 GND (power)
part A pins: 1 Q (oe), 2 ~{Q} (oe), 4 LE (in), 5 ~{LE} (in), 7 IN- (in), 8 IN+ (in)
part B pins: 9 IN+ (in), 10 IN- (in), 12 ~{LE} (in), 13 LE (in), 15 ~{Q} (oe), 16 Q (oe)
part A text: 3, 14
part B text: 3, 14

## CMP01CJ
designator U?
Fast Precision Comparator; Published: 8-Jun-2000; LatestRevisionDate: 17-Jul-2002; LatestRevisionNote: Re-released for DXP Platform.; DatasheetVersion: REV. A; PackageVersion: 1990; PackageReference: H-08A; Publisher: Altium Limited; PackageDescription: Can; 8 Leads; Pin Circle Dia. 5.08 mm; Lead Dia. 0.53 mm (max); ComponentLink1Description: Manufacturer Link; ComponentLink1URL: http://www.analog.com/
footprint H-08A (Can; 8 Leads; Pin Circle Dia. 5.08 mm; Lead Dia. 0.53 mm (max))
pins: 1 GND (power), 2 IN+ (in), 3 IN- (in), 4 V- (power), 5 BAL, 6 BAL, 7 OUT (out), 8 V+ (power)

## CMP01CP
designator U?
Fast Precision Comparator; Published: 8-Jun-2000; LatestRevisionDate: 04-Mar-2005; LatestRevisionNote: Stylized 3D Model Added.; DatasheetVersion: REV. A; PackageReference: N-8_A; Publisher: Altium Limited; PackageDescription: DIP; 8 Leads; Row Spacing 7.62 mm; Pitch 2.54 mm; Code_JEDEC: MO-001-AN; ComponentLink1Description: Manufacturer Link; ComponentLink1URL: http://www.analog.com/
footprint N-8_A (DIP; 8 Leads; Row Spacing 7.62 mm; Pitch 2.54 mm)
3D model N-8A (DIP; 8 Leads; Row Spacing 7.62 mm; Pitch 2.54 mm)
pins: 1 GND (power), 2 IN+ (in), 3 IN- (in), 4 V- (power), 5 BAL, 6 BAL, 7 OUT (out), 8 V+ (power)

## CMP01CZ
designator U?
Fast Precision Comparator; Published: 8-Jun-2000; LatestRevisionDate: 04-Mar-2005; LatestRevisionNote: Stylized 3D Model Added.; DatasheetVersion: REV. A; PackageVersion: 1998; PackageReference: Q-8; Publisher: Altium Limited; PackageDescription: DIP; 8 Leads; Row Spacing 7.62 mm; Pitch 2.54 mm; ComponentLink1Description: Manufacturer Link; ComponentLink1URL: http://www.analog.com/
footprint Q-8 (DIP; 8 Leads; Row Spacing 7.62 mm; Pitch 2.54 mm)
3D model Q-8 (DIP; 8 Leads; Row Spacing 7.62 mm; Pitch 2.54 mm)
pins: 1 GND (power), 2 IN+ (in), 3 IN- (in), 4 V- (power), 5 BAL, 6 BAL, 7 OUT (out), 8 V+ (power)

## CMP01EJ
designator U?
Fast Precision Comparator; Published: 8-Jun-2000; LatestRevisionDate: 17-Jul-2002; LatestRevisionNote: Re-released for DXP Platform.; DatasheetVersion: REV. A; PackageVersion: 1990; PackageReference: H-08A; Publisher: Altium Limited; PackageDescription: Can; 8 Leads; Pin Circle Dia. 5.08 mm; Lead Dia. 0.53 mm (max); ComponentLink1Description: Manufacturer Link; ComponentLink1URL: http://www.analog.com/
footprint H-08A (Can; 8 Leads; Pin Circle Dia. 5.08 mm; Lead Dia. 0.53 mm (max))
pins: 1 GND (power), 2 IN+ (in), 3 IN- (in), 4 V- (power), 5 BAL, 6 BAL, 7 OUT (out), 8 V+ (power)

## CMP01EP
designator U?
Fast Precision Comparator; Published: 8-Jun-2000; LatestRevisionDate: 04-Mar-2005; LatestRevisionNote: Stylized 3D Model Added.; DatasheetVersion: REV. A; PackageReference: N-8_A; Publisher: Altium Limited; PackageDescription: DIP; 8 Leads; Row Spacing 7.62 mm; Pitch 2.54 mm; Code_JEDEC: MO-001-AN; ComponentLink1Description: Manufacturer Link; ComponentLink1URL: http://www.analog.com/
footprint N-8_A (DIP; 8 Leads; Row Spacing 7.62 mm; Pitch 2.54 mm)
3D model N-8A (DIP; 8 Leads; Row Spacing 7.62 mm; Pitch 2.54 mm)
pins: 1 GND (power), 2 IN+ (in), 3 IN- (in), 4 V- (power), 5 BAL, 6 BAL, 7 OUT (out), 8 V+ (power)

## CMP01EZ
designator U?
Fast Precision Comparator; Published: 8-Jun-2000; LatestRevisionDate: 04-Mar-2005; LatestRevisionNote: Stylized 3D Model Added.; DatasheetVersion: REV. A; PackageVersion: 1998; PackageReference: Q-8; Publisher: Altium Limited; PackageDescription: DIP; 8 Leads; Row Spacing 7.62 mm; Pitch 2.54 mm; ComponentLink1Description: Manufacturer Link; ComponentLink1URL: http://www.analog.com/
footprint Q-8 (DIP; 8 Leads; Row Spacing 7.62 mm; Pitch 2.54 mm)
3D model Q-8 (DIP; 8 Leads; Row Spacing 7.62 mm; Pitch 2.54 mm)
pins: 1 GND (power), 2 IN+ (in), 3 IN- (in), 4 V- (power), 5 BAL, 6 BAL, 7 OUT (out), 8 V+ (power)

## CMP01J
designator U?
Fast Precision Comparator; Published: 8-Jun-2000; LatestRevisionDate: 17-Jul-2002; LatestRevisionNote: Re-released for DXP Platform.; DatasheetVersion: REV. A; PackageVersion: 1990; PackageReference: H-08A; Publisher: Altium Limited; PackageDescription: Can; 8 Leads; Pin Circle Dia. 5.08 mm; Lead Dia. 0.53 mm (max); ComponentLink1Description: Manufacturer Link; ComponentLink1URL: http://www.analog.com/
footprint H-08A (Can; 8 Leads; Pin Circle Dia. 5.08 mm; Lead Dia. 0.53 mm (max))
pins: 1 GND (power), 2 IN+ (in), 3 IN- (in), 4 V- (power), 5 BAL, 6 BAL, 7 OUT (out), 8 V+ (power)

## CMP02CJ
designator U?
Low-Input-Current Precision Comparator; Note: Obsolete as of Oct 1999; Published: 8-Jun-2000; LatestRevisionDate: 17-Jul-2002; LatestRevisionNote: Re-released for DXP Platform.; PackageVersion: 1990; PackageReference: H-08A; Publisher: Altium Limited; PackageDescription: Can; 8 Leads; Pin Circle Dia. 5.08 mm; Lead Dia. 0.53 mm (max); ComponentLink1Description: Manufacturer Link; ComponentLink1URL: http://www.analog.com/
footprint H-08A (Can; 8 Leads; Pin Circle Dia. 5.08 mm; Lead Dia. 0.53 mm (max))
pins: 1 GND (power), 2 IN+ (in), 3 IN- (in), 4 V- (power), 5 BAL, 6 BAL, 7 OUT (out), 8 V+ (power)

## CMP02CP
designator U?
Low-Input-Current Precision Comparator; Note: Obsolete as of Oct 1999; Published: 8-Jun-2000; LatestRevisionDate: 04-Mar-2005; LatestRevisionNote: Stylized 3D Model Added.; PackageReference: N-8_A; Publisher: Altium Limited; PackageDescription: DIP; 8 Leads; Row Spacing 7.62 mm; Pitch 2.54 mm; Code_JEDEC: MO-001-AN; ComponentLink1Description: Manufacturer Link; ComponentLink1URL: http://www.analog.com/
footprint N-8_A (DIP; 8 Leads; Row Spacing 7.62 mm; Pitch 2.54 mm)
3D model N-8A (DIP; 8 Leads; Row Spacing 7.62 mm; Pitch 2.54 mm)
pins: 1 GND (power), 2 IN+ (in), 3 IN- (in), 4 V- (power), 5 BAL, 6 BAL, 7 OUT (out), 8 V+ (power)

## CMP02CS
designator U?
Low-Input-Current Precision Comparator; Note: Obsolete as of Oct 1999; Published: 8-Jun-2000; LatestRevisionDate: 13-Apr-2006; LatestRevisionNote: IPC-7351 Footprint Added.; PackageVersion: revA; PackageReference: SO-8; Publisher: Altium Limited; PackageDescription: 8-Pin Small Outline Integrated Circuit 1.27 mm Pitch; Code_JEDEC: MS-012-AA; Code_IPC: SOIC127P600-8; ComponentLink1Description: Manufacturer Link; ComponentLink1URL: http://www.analog.com/
footprint SO-8_N (SOIC, 8-Leads, Body 4.9x3.9mm, Pitch 1.27mm, IPC Medium Density)
footprint SO-8_L (SOIC, 8-Leads, Body 4.9x3.9mm, Pitch 1.27mm, IPC High Density)
footprint SO-8_M (SOIC, 8-Leads, Body 4.9x3.9mm, Pitch 1.27mm, IPC Low Density)
3D model R-8 (8-Pin Small Outline Integrated Circuit 1.27 mm Pitch)
pins: 1 GND (power), 2 IN+ (in), 3 IN- (in), 4 V- (power), 5 BAL, 6 BAL, 7 OUT (out), 8 V+ (power)

## CMP02EP
designator U?
Low-Input-Current Precision Comparator; Note: Obsolete as of Oct 1999; Published: 8-Jun-2000; LatestRevisionDate: 04-Mar-2005; LatestRevisionNote: Stylized 3D Model Added.; PackageReference: N-8_A; Publisher: Altium Limited; PackageDescription: DIP; 8 Leads; Row Spacing 7.62 mm; Pitch 2.54 mm; Code_JEDEC: MO-001-AN; ComponentLink1Description: Manufacturer Link; ComponentLink1URL: http://www.analog.com/
footprint N-8_A (DIP; 8 Leads; Row Spacing 7.62 mm; Pitch 2.54 mm)
3D model N-8A (DIP; 8 Leads; Row Spacing 7.62 mm; Pitch 2.54 mm)
pins: 1 GND (power), 2 IN+ (in), 3 IN- (in), 4 V- (power), 5 BAL, 6 BAL, 7 OUT (out), 8 V+ (power)

## CMP04BY
designator U?
Quad Low-Power, Precision Comparator; Published: 8-Jun-2000; LatestRevisionDate: 04-Mar-2005; LatestRevisionNote: Stylized 3D Model Added.; DatasheetVersion: REV. C 1998; PackageVersion: revC, 1998; PackageReference: Q-14_B; Publisher: Altium Limited; PackageDescription: DIP; 14 Leads; Row Spacing 7.62 mm; Pitch 2.54 mm; ComponentLink1Description: Manufacturer Link; ComponentLink1URL: http://www.analog.com/en/prod/0%2C2877%2CCMP04%2C00.html; ComponentLink2Description: Datasheet; ComponentLink2URL: http://www.analog.com/UploadedFiles/Data_Sheets/281142995CMP04_d.pdf
footprint Q-14_B (DIP; 14 Leads; Row Spacing 7.62 mm; Pitch 2.54 mm)
3D model Q-14B (DIP; 14 Leads; Row Spacing 7.62 mm; Pitch 2.54 mm)
pins on every part: 3 V+ (power), 12 V- (power)
part A pins: 2 OUT (oc), 4 IN- (in), 5 IN+ (in)
part B pins: 1 OUT (oc), 6 IN- (in), 7 IN+ (in)
part C pins: 8 IN- (in), 9 IN+ (in), 14 OUT (oc)
part D pins: 10 IN- (in), 11 IN+ (in), 13 OUT (oc)

## CMP04FP
designator U?
Quad Low-Power, Precision Comparator; Published: 8-Jun-2000; LatestRevisionDate: 04-Mar-2005; LatestRevisionNote: Stylized 3D Model Added.; DatasheetVersion: REV. C 1998; PackageVersion: 1999; PackageReference: N-14; Publisher: Altium Limited; PackageDescription: DIP; 14 Leads; Row Spacing 7.62 mm; Pitch 2.54 mm; ComponentLink1Description: Manufacturer Link; ComponentLink1URL: http://www.analog.com/en/prod/0%2C2877%2CCMP04%2C00.html; ComponentLink2Description: Datasheet; ComponentLink2URL: http://www.analog.com/UploadedFiles/Data_Sheets/281142995CMP04_d.pdf
footprint N-14 (DIP; 14 Leads; Row Spacing 7.62 mm; Pitch 2.54 mm)
3D model Q-14B (DIP; 14 Leads; Row Spacing 7.62 mm; Pitch 2.54 mm)
pins on every part: 3 V+ (power), 12 V- (power)
part A pins: 2 OUT (oc), 4 IN- (in), 5 IN+ (in)
part B pins: 1 OUT (oc), 6 IN- (in), 7 IN+ (in)
part C pins: 8 IN- (in), 9 IN+ (in), 14 OUT (oc)
part D pins: 10 IN- (in), 11 IN+ (in), 13 OUT (oc)

## CMP04FY
designator U?
Quad Low-Power, Precision Comparator; Published: 8-Jun-2000; LatestRevisionDate: 04-Mar-2005; LatestRevisionNote: Stylized 3D Model Added.; DatasheetVersion: REV. A 1992; PackageVersion: revC, 1998; PackageReference: Q-14_B; Publisher: Altium Limited; PackageDescription: DIP; 14 Leads; Row Spacing 7.62 mm; Pitch 2.54 mm; ComponentLink1Description: Manufacturer Link; ComponentLink1URL: http://www.analog.com/
footprint Q-14_B (DIP; 14 Leads; Row Spacing 7.62 mm; Pitch 2.54 mm)
3D model Q-14B (DIP; 14 Leads; Row Spacing 7.62 mm; Pitch 2.54 mm)
pins on every part: 3 V+ (power), 12 V- (power)
part A pins: 2 OUT (oc), 4 IN- (in), 5 IN+ (in)
part B pins: 1 OUT (oc), 6 IN- (in), 7 IN+ (in)
part C pins: 8 IN- (in), 9 IN+ (in), 14 OUT (oc)
part D pins: 10 IN- (in), 11 IN+ (in), 13 OUT (oc)

## CMP05CZ
designator U?
High-Speed Precision Comparator; Note: Pin 5 is not connected; Published: 8-Jun-2000; LatestRevisionDate: 04-Mar-2005; LatestRevisionNote: Stylized 3D Model Added.; DatasheetVersion: REV. A; PackageVersion: 1998; PackageReference: Q-8; Publisher: Altium Limited; PackageDescription: DIP; 8 Leads; Row Spacing 7.62 mm; Pitch 2.54 mm; ComponentLink1Description: Manufacturer Link; ComponentLink1URL: http://www.analog.com/
footprint Q-8 (DIP; 8 Leads; Row Spacing 7.62 mm; Pitch 2.54 mm)
3D model Q-8 (DIP; 8 Leads; Row Spacing 7.62 mm; Pitch 2.54 mm)
pins: 1 GND (power), 2 IN+ (in), 3 IN- (in), 4 V- (power), 5 NC, 6 LE (in), 7 OUT (out), 8 V+ (power)

## CMP05FJ
designator U?
High-Speed Precision Comparator; Note: Pin 5 is not connected; Published: 8-Jun-2000; LatestRevisionDate: 17-Jul-2002; LatestRevisionNote: Re-released for DXP Platform.; DatasheetVersion: REV. A; PackageVersion: 1990; PackageReference: H-08A; Publisher: Altium Limited; PackageDescription: Can; 8 Leads; Pin Circle Dia. 5.08 mm; Lead Dia. 0.53 mm (max); ComponentLink1Description: Manufacturer Link; ComponentLink1URL: http://www.analog.com/
footprint H-08A (Can; 8 Leads; Pin Circle Dia. 5.08 mm; Lead Dia. 0.53 mm (max))
pins: 1 GND (power), 2 IN+ (in), 3 IN- (in), 4 V- (power), 5 NC, 6 LE (in), 7 OUT (out), 8 V+ (power)

## CMP05FZ
designator U?
High-Speed Precision Comparator; Note: Pin 5 is not connected; Published: 8-Jun-2000; LatestRevisionDate: 04-Mar-2005; LatestRevisionNote: Stylized 3D Model Added.; DatasheetVersion: REV. A; PackageVersion: 1998; PackageReference: Q-8; Publisher: Altium Limited; PackageDescription: DIP; 8 Leads; Row Spacing 7.62 mm; Pitch 2.54 mm; ComponentLink1Description: Manufacturer Link; ComponentLink1URL: http://www.analog.com/
footprint Q-8 (DIP; 8 Leads; Row Spacing 7.62 mm; Pitch 2.54 mm)
3D model Q-8 (DIP; 8 Leads; Row Spacing 7.62 mm; Pitch 2.54 mm)
pins: 1 GND (power), 2 IN+ (in), 3 IN- (in), 4 V- (power), 5 NC, 6 LE (in), 7 OUT (out), 8 V+ (power)

## CMP05GP
designator U?
High-Speed Precision Comparator; Note: Pin 5 is not connected; Published: 8-Jun-2000; LatestRevisionDate: 04-Mar-2005; LatestRevisionNote: Stylized 3D Model Added.; DatasheetVersion: REV. A; PackageReference: N-8_A; Publisher: Altium Limited; PackageDescription: DIP; 8 Leads; Row Spacing 7.62 mm; Pitch 2.54 mm; Code_JEDEC: MO-001-AN; ComponentLink1Description: Manufacturer Link; ComponentLink1URL: http://www.analog.com/
footprint N-8_A (DIP; 8 Leads; Row Spacing 7.62 mm; Pitch 2.54 mm)
3D model N-8A (DIP; 8 Leads; Row Spacing 7.62 mm; Pitch 2.54 mm)
pins: 1 GND (power), 2 IN+ (in), 3 IN- (in), 4 V- (power), 5 NC, 6 LE (in), 7 OUT (out), 8 V+ (power)

## CMP05GZ
designator U?
High-Speed Precision Comparator; Note: Pin 5 is not connected; Published: 8-Jun-2000; LatestRevisionDate: 04-Mar-2005; LatestRevisionNote: Stylized 3D Model Added.; DatasheetVersion: REV. A; PackageVersion: 1998; PackageReference: Q-8; Publisher: Altium Limited; PackageDescription: DIP; 8 Leads; Row Spacing 7.62 mm; Pitch 2.54 mm; ComponentLink1Description: Manufacturer Link; ComponentLink1URL: http://www.analog.com/
footprint Q-8 (DIP; 8 Leads; Row Spacing 7.62 mm; Pitch 2.54 mm)
3D model Q-8 (DIP; 8 Leads; Row Spacing 7.62 mm; Pitch 2.54 mm)
pins: 1 GND (power), 2 IN+ (in), 3 IN- (in), 4 V- (power), 5 NC, 6 LE (in), 7 OUT (out), 8 V+ (power)

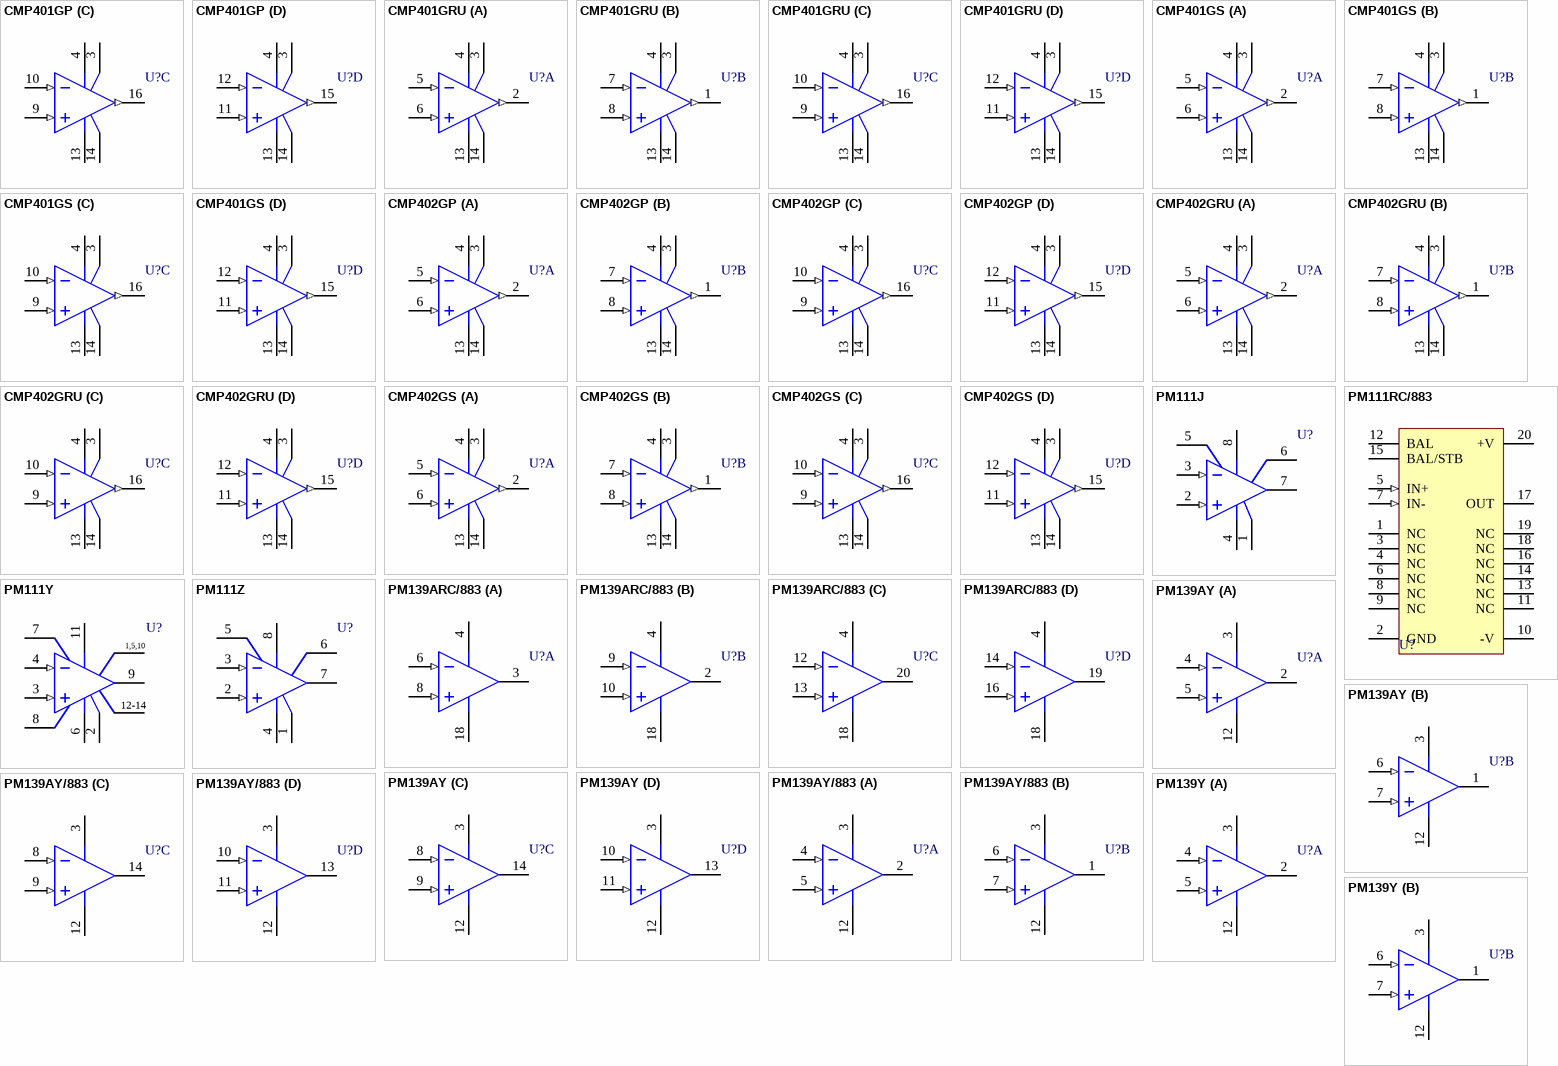
[diagram p2: symbols CMP401GP to PM139Y]

## CMP401GP
designator U?
23ns and 65ns Low Voltage Comparator; Published: 8-Jun-2000; LatestRevisionDate: 04-Mar-2005; LatestRevisionNote: Stylized 3D Model Added.; DatasheetVersion: REV. 0 1995; PackageReference: N-16_A; Publisher: Altium Limited; PackageDescription: DIP; 16 Leads; Row Spacing 7.62 mm; Pitch 2.54 mm; ComponentLink1Description: Manufacturer Link; ComponentLink1URL: http://www.analog.com/en/prod/0%2C2877%2CCMP401%2C00.html; ComponentLink2Description: Datasheet; ComponentLink2URL: http://www.analog.com/UploadedFiles/Data_Sheets/171260227CMP401_402_a.pdf
footprint N-16_A (DIP; 16 Leads; Row Spacing 7.62 mm; Pitch 2.54 mm)
3D model Q-16 (DIP; 16 Leads; Row Spacing 7.62 mm; Pitch 2.54 mm)
pins on every part: 3 DVCC (power), 4 AVCC (power), 13 AGND (power), 14 DGND (power)
part A pins: 2 OUT (out), 5 IN- (in), 6 IN+ (in)
part B pins: 1 OUT (out), 7 IN- (in), 8 IN+ (in)
part C pins: 9 IN+ (in), 10 IN- (in), 16 OUT (out)
part D pins: 11 IN+ (in), 12 IN- (in), 15 OUT (out)

## CMP401GRU
designator U?
23ns and 65ns Low Voltage Comparator; Published: 8-Jun-2000; LatestRevisionDate: 04-Mar-2005; LatestRevisionNote: Stylized 3D Model Added.; DatasheetVersion: REV. 0 1995; PackageVersion: revA; PackageReference: RU-16; Publisher: Altium Limited; PackageDescription: Shrink Small Outline; 16 Leads; Body Width 4.4 mm; Pitch 0.65 mm; ComponentLink1Description: Manufacturer Link; ComponentLink1URL: http://www.analog.com/en/prod/0%2C2877%2CCMP401%2C00.html; ComponentLink2Description: Datasheet; ComponentLink2URL: http://www.analog.com/UploadedFiles/Data_Sheets/171260227CMP401_402_a.pdf
footprint RU-16 (Shrink Small Outline; 16 Leads; Body Width 4.4 mm; Pitch 0.65 mm)
3D model RU-16 (Shrink Small Outline; 16 Leads; Body Width 4.4 mm; Pitch 0.65 mm)
pins on every part: 3 DVCC (power), 4 AVCC (power), 13 AGND (power), 14 DGND (power)
part A pins: 2 OUT (out), 5 IN- (in), 6 IN+ (in)
part B pins: 1 OUT (out), 7 IN- (in), 8 IN+ (in)
part C pins: 9 IN+ (in), 10 IN- (in), 16 OUT (out)
part D pins: 11 IN+ (in), 12 IN- (in), 15 OUT (out)

## CMP401GS
designator U?
23ns and 65ns Low Voltage Comparator; Published: 8-Jun-2000; LatestRevisionDate: 13-Apr-2006; LatestRevisionNote: IPC-7351 Footprint Added.; DatasheetVersion: REV. 0 1995; PackageReference: R-16A; Publisher: Altium Limited; PackageDescription: 16-Pin Small Outline Integrated Circuit 1.27 mm Pitch; Code_JEDEC: MS-012-AC; Code_IPC: SOIC127P600-16; ComponentLink1Description: Manufacturer Link; ComponentLink1URL: http://www.analog.com/en/prod/0%2C2877%2CCMP401%2C00.html; ComponentLink2Description: Datasheet; ComponentLink2URL: http://www.analog.com/UploadedFiles/Data_Sheets/171260227CMP401_402_a.pdf
footprint R-16A_N (SOIC, 16-Leads, Body 9.9x3.9mm, Pitch 1.27mm, IPC Medium Density)
footprint R-16A_L (SOIC, 16-Leads, Body 9.9x3.9mm, Pitch 1.27mm, IPC High Density)
footprint R-16A_M (SOIC, 16-Leads, Body 9.9x3.9mm, Pitch 1.27mm, IPC Low Density)
3D model R-16A (16-Pin Small Outline Integrated Circuit 1.27 mm Pitch)
pins on every part: 3 DVCC (power), 4 AVCC (power), 13 AGND (power), 14 DGND (power)
part A pins: 2 OUT (out), 5 IN- (in), 6 IN+ (in)
part B pins: 1 OUT (out), 7 IN- (in), 8 IN+ (in)
part C pins: 9 IN+ (in), 10 IN- (in), 16 OUT (out)
part D pins: 11 IN+ (in), 12 IN- (in), 15 OUT (out)

## CMP402GP
designator U?
23ns and 65ns Low Voltage Comparator; Published: 8-Jun-2000; LatestRevisionDate: 04-Mar-2005; LatestRevisionNote: Stylized 3D Model Added.; DatasheetVersion: REV. 0 1995; PackageReference: N-16_A; Publisher: Altium Limited; PackageDescription: DIP; 16 Leads; Row Spacing 7.62 mm; Pitch 2.54 mm; ComponentLink1Description: Manufacturer Link; ComponentLink1URL: http://www.analog.com/en/prod/0%2C2877%2CCMP401%2C00.html; ComponentLink2Description: Datasheet; ComponentLink2URL: http://www.analog.com/UploadedFiles/Data_Sheets/171260227CMP401_402_a.pdf
footprint N-16_A (DIP; 16 Leads; Row Spacing 7.62 mm; Pitch 2.54 mm)
3D model Q-16 (DIP; 16 Leads; Row Spacing 7.62 mm; Pitch 2.54 mm)
pins on every part: 3 DVCC (power), 4 AVCC (power), 13 AGND (power), 14 DGND (power)
part A pins: 2 OUT (out), 5 IN- (in), 6 IN+ (in)
part B pins: 1 OUT (out), 7 IN- (in), 8 IN+ (in)
part C pins: 9 IN+ (in), 10 IN- (in), 16 OUT (out)
part D pins: 11 IN+ (in), 12 IN- (in), 15 OUT (out)